# Altium footprint library SOT95P252X140-3N.PcbLib: 1 footprints
Each footprint in its own frame and in the unit in brackets; x right, y up, seen from the top. Pads: shape width x height; smd on the part's side, far side on the other; paste and mask are expansions set on the pad; w line width, h text height; cw(c..) or ccw(c..) is an arc to the next point about the centre after c.
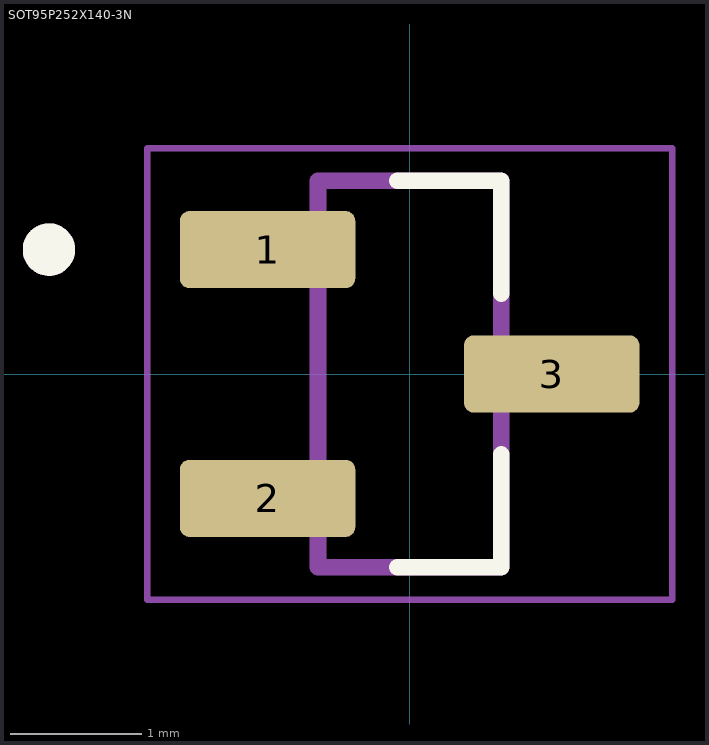
[diagram p0: the footprint, top view; thin cyan lines are the x and y axes]

## SOT95P252X140-3N [mm]
height 1.4
pads (3):
  rrect25% 1.34x0.59 smd: 1(-1.085,0.95) 2(-1.085,-0.95) 3(1.085,0)
Top Overlay:
  circle w0.2: c-2.755,0.95 r0.1
  lines w0.127: -0.095,-1.475 0.7,-1.475 0.7,-0.615 ; -0.095,1.475 0.7,1.475 0.7,0.615
Mechanical 13:
  circle w0.2: c-2.755,0.95 r0.1
  lines w0.127: -0.7,-1.475 0.7,-1.475 0.7,1.475 -0.7,1.475 -0.7,-1.475
Mechanical 15:
  lines w0.05: -2.005,-1.725 -2.005,1.725 2.005,1.725 2.005,-1.725 -2.005,-1.725
3D body "step_temp.STEP": height 1.4, standoff 0, extent -1.262,-1.45 1.262,1.45